# Altium footprint library CONN A9AAT-1002E.PcbLib: 1 footprints
Each footprint in its own frame and in the unit in brackets; x right, y up, seen from the top. Pads: shape width x height; smd on the part's side, far side on the other; paste and mask are expansions set on the pad; w line width, h text height; cw(c..) or ccw(c..) is an arc to the next point about the centre after c.
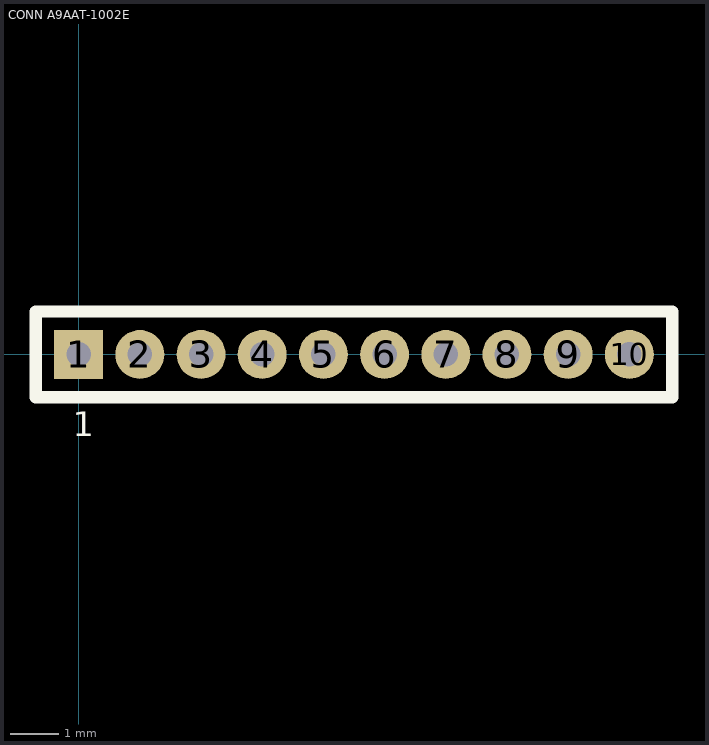
[diagram p0: the footprint, top view; thin cyan lines are the x and y axes]

## CONN A9AAT-1002E [mil] "PCB 10 Position Ribbon Cable"
pads (10):
  rect 40x40 hole 20: 1(0,0)
  round 40 hole 20: 2(50,0) 3(100,0) 4(150,0) 5(200,0) 6(250,0) 7(300,0) 8(350,0) 9(400,0) 10(450,0)
Top Overlay:
  lines w10: -35,-35 -35,35 485,35 485,-35 -35,-35
  text "1" at -5,-67 h20